# Altium integrated library DC-005.IntLib: 1 symbol
Pins are listed as number, name and electrical type; pins without a type are passive.

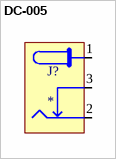
[diagram p0: symbol DC-005]

## DC-005
designator J?
DC-005 - DC 5.5x2.1
footprint DC-005
pins: 1, 2, 3